# EAGLE library part FPC-30 (library sjg-con)
HLW30R-2C7LF 30-pin FPC connector, through hole, 1mm pitch
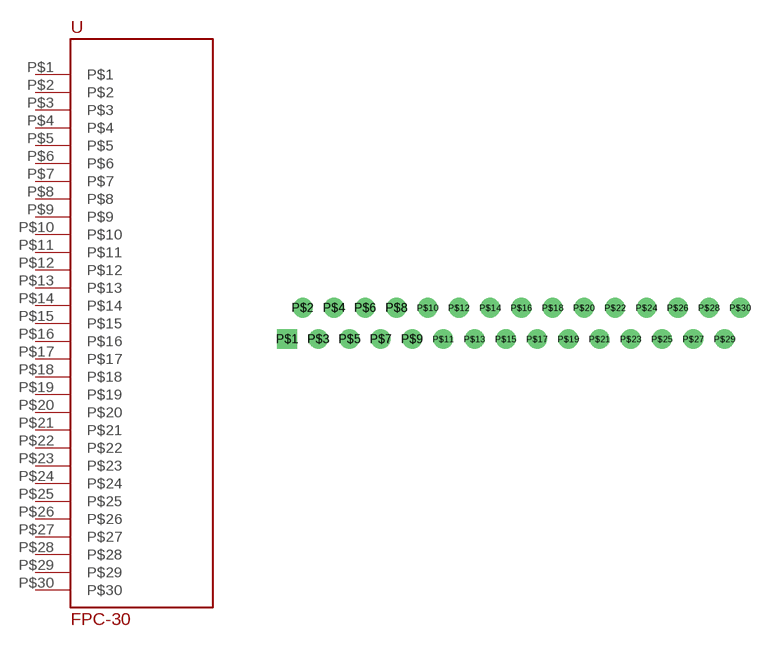
[diagram p9: symbol with the pads of HLW30R-2C7LF; footprint HLW30R-2C7LF]

Designator prefix -

## FPC-30 (USE: HLW30R-2C7LF)  [HLW30R-2C7LF]
P$1  P$1
P$2  P$2
P$3  P$3
P$4  P$4
P$5  P$5
P$6  P$6
P$7  P$7
P$8  P$8
P$9  P$9
P$10  P$10
P$11  P$11
P$12  P$12
P$13  P$13
P$14  P$14
P$15  P$15
P$16  P$16
P$17  P$17
P$18  P$18
P$19  P$19
P$20  P$20
P$21  P$21
P$22  P$22
P$23  P$23
P$24  P$24
P$25  P$25
P$26  P$26
P$27  P$27
P$28  P$28
P$29  P$29
P$30  P$30

## Footprint HLW30R-2C7LF (pad centres in mm)
drill 0.75 square: P$1 -15,0
drill 0.75: P$2 -14,2; P$3 -13,0; P$4 -12,2; P$5 -11,0; P$6 -10,2; P$7 -9,0; P$8 -8,2; P$9 -7,0; P$10 -6,2; P$11 -5,0; P$12 -4,2; P$13 -3,0; P$14 -2,2; P$15 -1,0; P$16 0,2; P$17 1,0; P$18 2,2; P$19 3,0; P$20 4,2; P$21 5,0; P$22 6,2; P$23 7,0; P$24 8,2; P$25 9,0; P$26 10,2; P$27 11,0; P$28 12,2; P$29 13,0; P$30 14,2